# Altium footprint library FPGA_CONN.PcbLib: 2 footprints
Each footprint in its own frame and in the unit in brackets; x right, y up, seen from the top. Pads: shape width x height; smd on the part's side, far side on the other; paste and mask are expansions set on the pad; w line width, h text height; cw(c..) or ccw(c..) is an arc to the next point about the centre after c.
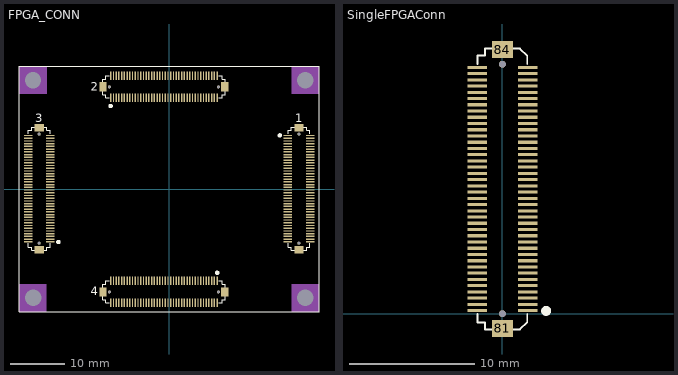
[diagram p0: the footprints below, top view; thin cyan lines are the x and y axes]

## FPGA_CONN [mm]
pads (340):
  rect 1.55x0.25 smd: A-1(21.786,9.875) A-2(25.836,9.875) A-3(21.786,9.375) A-4(25.836,9.375) A-5(21.786,8.875) A-6(25.836,8.875) A-7(21.786,8.375) A-8(25.836,8.375) A-9(21.786,7.875) A-10(25.836,7.875) A-11(21.786,7.375) A-12(25.836,7.375) A-13(21.786,6.875) A-14(25.836,6.875) A-15(21.786,6.375) A-16(25.836,6.375) A-17(21.786,5.875) A-18(25.836,5.875) A-19(21.786,5.375) A-20(25.836,5.375) A-21(21.786,4.875) A-22(25.836,4.875) A-23(21.786,4.375) A-24(25.836,4.375) A-25(21.786,3.875) A-26(25.836,3.875) A-27(21.786,3.375) A-28(25.836,3.375) A-29(21.786,2.875) A-30(25.836,2.875) A-31(21.786,2.375) A-32(25.836,2.375) A-33(21.786,1.875) A-34(25.836,1.875) A-35(21.786,1.375) A-36(25.836,1.375) A-37(21.786,0.875) A-38(25.836,0.875) A-39(21.786,0.375) A-40(25.836,0.375) A-41(21.786,-0.125) A-42(25.836,-0.125) A-43(21.786,-0.625) A-44(25.836,-0.625) A-45(21.786,-1.125) A-46(25.836,-1.125) A-47(21.786,-1.625) A-48(25.836,-1.625) A-49(21.786,-2.125) A-50(25.836,-2.125) A-51(21.786,-2.625) A-52(25.836,-2.625) A-53(21.786,-3.125) A-54(25.836,-3.125) A-55(21.786,-3.625) A-56(25.836,-3.625) A-57(21.786,-4.125) A-58(25.836,-4.125) A-59(21.786,-4.625) A-60(25.836,-4.625) A-61(21.786,-5.125) A-62(25.836,-5.125) A-63(21.786,-5.625) A-64(25.836,-5.625) A-65(21.786,-6.125) A-66(25.836,-6.125) A-67(21.786,-6.625) A-68(25.836,-6.625) A-69(21.786,-7.125) A-70(25.836,-7.125) A-71(21.786,-7.625) A-72(25.836,-7.625) A-73(21.786,-8.125) A-74(25.836,-8.125) A-75(21.786,-8.625) A-76(25.836,-8.625) A-77(21.786,-9.125) A-78(25.836,-9.125) A-79(21.786,-9.625) A-80(25.836,-9.625) C-1(-21.786,-9.624) C-2(-25.836,-9.624) C-3(-21.786,-9.124) C-4(-25.836,-9.124) C-5(-21.786,-8.624) C-6(-25.836,-8.624) C-7(-21.786,-8.124) C-8(-25.836,-8.124) C-9(-21.786,-7.624) C-10(-25.836,-7.624) C-11(-21.786,-7.124) C-12(-25.836,-7.124) C-13(-21.786,-6.624) C-14(-25.836,-6.624) C-15(-21.786,-6.124) C-16(-25.836,-6.124) C-17(-21.786,-5.624) C-18(-25.836,-5.624) C-19(-21.786,-5.124) C-20(-25.836,-5.124) C-21(-21.786,-4.624) C-22(-25.836,-4.624) C-23(-21.786,-4.124) C-24(-25.836,-4.124) C-25(-21.786,-3.624) C-26(-25.836,-3.624) C-27(-21.786,-3.124) C-28(-25.836,-3.124) C-29(-21.786,-2.624) C-30(-25.836,-2.624) C-31(-21.786,-2.124) C-32(-25.836,-2.124) C-33(-21.786,-1.624) C-34(-25.836,-1.624) C-35(-21.786,-1.124) C-36(-25.836,-1.124) C-37(-21.786,-0.624) C-38(-25.836,-0.624) C-39(-21.786,-0.124) C-40(-25.836,-0.124) C-41(-21.786,0.376) C-42(-25.836,0.376) C-43(-21.786,0.876) C-44(-25.836,0.876) C-45(-21.786,1.376) C-46(-25.836,1.376) C-47(-21.786,1.876) C-48(-25.836,1.876) C-49(-21.786,2.376) C-50(-25.836,2.376) C-51(-21.786,2.876) C-52(-25.836,2.876) C-53(-21.786,3.376) C-54(-25.836,3.376) C-55(-21.786,3.876) C-56(-25.836,3.876) C-57(-21.786,4.376) C-58(-25.836,4.376) C-59(-21.786,4.876) C-60(-25.836,4.876) C-61(-21.786,5.376) C-62(-25.836,5.376) C-63(-21.786,5.876) C-64(-25.836,5.876) C-65(-21.786,6.376) C-66(-25.836,6.376) C-67(-21.786,6.876) C-68(-25.836,6.876) C-69(-21.786,7.376) C-70(-25.836,7.376) C-71(-21.786,7.876) C-72(-25.836,7.876) C-73(-21.786,8.376) C-74(-25.836,8.376) C-75(-21.786,8.876) C-76(-25.836,8.876) C-77(-21.786,9.376) C-78(-25.836,9.376) C-79(-21.786,9.876) C-80(-25.836,9.876)
  rect 1.7x1.35 smd: A-81(23.8,11.3) A-84(23.8,-11.05) C-81(-23.8,-11.05) C-84(-23.8,11.3)
  round 0.55 hole 0.55: A-82(23.811,10.125) A-83(23.811,-9.875) B-82(-10.951,18.795) B-83(9.049,18.795) C-82(-23.811,-9.874) C-83(-23.811,10.126) D-82(9.049,-18.795) D-83(-10.951,-18.795)
  rect 0.25x1.55 smd: B-1(-10.701,16.77) B-2(-10.701,20.82) B-3(-10.201,16.77) B-4(-10.201,20.82) B-5(-9.701,16.77) B-6(-9.701,20.82) B-7(-9.201,16.77) B-8(-9.201,20.82) B-9(-8.701,16.77) B-10(-8.701,20.82) B-11(-8.201,16.77) B-12(-8.201,20.82) B-13(-7.701,16.77) B-14(-7.701,20.82) B-15(-7.201,16.77) B-16(-7.201,20.82) B-17(-6.701,16.77) B-18(-6.701,20.82) B-19(-6.201,16.77) B-20(-6.201,20.82) B-21(-5.701,16.77) B-22(-5.701,20.82) B-23(-5.201,16.77) B-24(-5.201,20.82) B-25(-4.701,16.77) B-26(-4.701,20.82) B-27(-4.201,16.77) B-28(-4.201,20.82) B-29(-3.701,16.77) B-30(-3.701,20.82) B-31(-3.201,16.77) B-32(-3.201,20.82) B-33(-2.701,16.77) B-34(-2.701,20.82) B-35(-2.201,16.77) B-36(-2.201,20.82) B-37(-1.701,16.77) B-38(-1.701,20.82) B-39(-1.201,16.77) B-40(-1.201,20.82) B-41(-0.701,16.77) B-42(-0.701,20.82) B-43(-0.201,16.77) B-44(-0.201,20.82) B-45(0.299,16.77) B-46(0.299,20.82) B-47(0.799,16.77) B-48(0.799,20.82) B-49(1.299,16.77) B-50(1.299,20.82) B-51(1.799,16.77) B-52(1.799,20.82) B-53(2.299,16.77) B-54(2.299,20.82) B-55(2.799,16.77) B-56(2.799,20.82) B-57(3.299,16.77) B-58(3.299,20.82) B-59(3.799,16.77) B-60(3.799,20.82) B-61(4.299,16.77) B-62(4.299,20.82) B-63(4.799,16.77) B-64(4.799,20.82) B-65(5.299,16.77) B-66(5.299,20.82) B-67(5.799,16.77) B-68(5.799,20.82) B-69(6.299,16.77) B-70(6.299,20.82) B-71(6.799,16.77) B-72(6.799,20.82) B-73(7.299,16.77) B-74(7.299,20.82) B-75(7.799,16.77) B-76(7.799,20.82) B-77(8.299,16.77) B-78(8.299,20.82) B-79(8.799,16.77) B-80(8.799,20.82) D-1(8.799,-16.77) D-2(8.799,-20.82) D-3(8.299,-16.77) D-4(8.299,-20.82) D-5(7.799,-16.77) D-6(7.799,-20.82) D-7(7.299,-16.77) D-8(7.299,-20.82) D-9(6.799,-16.77) D-10(6.799,-20.82) D-11(6.299,-16.77) D-12(6.299,-20.82) D-13(5.799,-16.77) D-14(5.799,-20.82) D-15(5.299,-16.77) D-16(5.299,-20.82) D-17(4.799,-16.77) D-18(4.799,-20.82) D-19(4.299,-16.77) D-20(4.299,-20.82) D-21(3.799,-16.77) D-22(3.799,-20.82) D-23(3.299,-16.77) D-24(3.299,-20.82) D-25(2.799,-16.77) D-26(2.799,-20.82) D-27(2.299,-16.77) D-28(2.299,-20.82) D-29(1.799,-16.77) D-30(1.799,-20.82) D-31(1.299,-16.77) D-32(1.299,-20.82) D-33(0.799,-16.77) D-34(0.799,-20.82) D-35(0.299,-16.77) D-36(0.299,-20.82) D-37(-0.201,-16.77) D-38(-0.201,-20.82) D-39(-0.701,-16.77) D-40(-0.701,-20.82) D-41(-1.201,-16.77) D-42(-1.201,-20.82) D-43(-1.701,-16.77) D-44(-1.701,-20.82) D-45(-2.201,-16.77) D-46(-2.201,-20.82) D-47(-2.701,-16.77) D-48(-2.701,-20.82) D-49(-3.201,-16.77) D-50(-3.201,-20.82) D-51(-3.701,-16.77) D-52(-3.701,-20.82) D-53(-4.201,-16.77) D-54(-4.201,-20.82) D-55(-4.701,-16.77) D-56(-4.701,-20.82) D-57(-5.201,-16.77) D-58(-5.201,-20.82) D-59(-5.701,-16.77) D-60(-5.701,-20.82) D-61(-6.201,-16.77) D-62(-6.201,-20.82) D-63(-6.701,-16.77) D-64(-6.701,-20.82) D-65(-7.201,-16.77) D-66(-7.201,-20.82) D-67(-7.701,-16.77) D-68(-7.701,-20.82) D-69(-8.201,-16.77) D-70(-8.201,-20.82) D-71(-8.701,-16.77) D-72(-8.701,-20.82) D-73(-9.201,-16.77) D-74(-9.201,-20.82) D-75(-9.701,-16.77) D-76(-9.701,-20.82) D-77(-10.201,-16.77) D-78(-10.201,-20.82) D-79(-10.701,-16.77) D-80(-10.701,-20.82)
  rect 1.35x1.7 smd: B-81(-12.125,18.8) B-84(10.225,18.8) D-81(10.225,-18.8) D-84(-12.125,-18.8)
  rect 0x0 hole 3: MNT-1(-24.952,20.008) MNT-2(24.985,20.008) MNT-3(24.985,-19.87) MNT-4(-24.926,-19.87)
Top Overlay:
  circle w0.4: c20.306,9.901 r0.2
  circle w0.4: c-10.727,15.29 r0.2
  circle w0.4: c-20.306,-9.649 r0.2
  circle w0.4: c8.824,-15.29 r0.2
  lines w0.127: -27.52,-22.429 -27.52,22.571 27.48,22.571 27.48,-22.429 -27.52,-22.429
  lines w0.15: -25.811,-9.907 -25.811,-10.574 -25.211,-10.574 -25.211,-11.124 -22.411,-11.124 -22.411,-10.574 -21.811,-10.574 -21.811,-9.907 ; -25.811,10.159 -25.811,10.826 -25.211,10.826 -25.211,11.376 -22.411,11.376 -22.411,10.826 -21.811,10.826 -21.811,10.159 ; -10.984,-20.795 -11.651,-20.795 -11.651,-20.195 -12.201,-20.195 -12.201,-17.395 -11.651,-17.395 -11.651,-16.795 -10.984,-16.795 ; -10.984,16.795 -11.651,16.795 -11.651,17.395 -12.201,17.395 -12.201,20.195 -11.651,20.195 -11.651,20.795 -10.984,20.795 ; 9.082,-20.795 9.749,-20.795 9.749,-20.195 10.299,-20.195 10.299,-17.395 9.749,-17.395 9.749,-16.795 9.082,-16.795 ; 9.082,16.795 9.749,16.795 9.749,17.395 10.299,17.395 10.299,20.195 9.749,20.195 9.749,20.795 9.082,20.795 ; 21.811,-9.908 21.811,-10.575 22.411,-10.575 22.411,-11.125 25.211,-11.125 25.211,-10.575 25.811,-10.575 25.811,-9.908 ; 21.811,10.158 21.811,10.825 22.411,10.825 22.411,11.375 25.211,11.375 25.211,10.825 25.811,10.825 25.811,10.158
  text "1" at 23.092,12.344 h1.52
  text "2" at -14.373,18.059 h1.52
  text "3" at -24.533,12.344 h1.52
  text "4" at -14.373,-19.406 h1.52
Mechanical 11:
  region: 27.459,-22.41 22.459,-22.41 22.459,-17.41 27.459,-17.41
  region: -22.521,-22.407 -27.521,-22.407 -27.521,-17.407 -22.521,-17.407
  region: 27.444,17.512 22.444,17.512 22.444,22.513 27.444,22.513
  region: -22.47,17.559 -27.47,17.559 -27.47,22.559 -22.47,22.559

## SingleFPGAConn [mm]
pads (84):
  rect 1.55x0.25 smd: 1(2.025,0.25) 2(-2.025,0.25) 3(2.025,0.75) 4(-2.025,0.75) 5(2.025,1.25) 6(-2.025,1.25) 7(2.025,1.75) 8(-2.025,1.75) 9(2.025,2.25) 10(-2.025,2.25) 11(2.025,2.75) 12(-2.025,2.75) 13(2.025,3.25) 14(-2.025,3.25) 15(2.025,3.75) 16(-2.025,3.75) 17(2.025,4.25) 18(-2.025,4.25) 19(2.025,4.75) 20(-2.025,4.75) 21(2.025,5.25) 22(-2.025,5.25) 23(2.025,5.75) 24(-2.025,5.75) 25(2.025,6.25) 26(-2.025,6.25) 27(2.025,6.75) 28(-2.025,6.75) 29(2.025,7.25) 30(-2.025,7.25) 31(2.025,7.75) 32(-2.025,7.75) 33(2.025,8.25) 34(-2.025,8.25) 35(2.025,8.75) 36(-2.025,8.75) 37(2.025,9.25) 38(-2.025,9.25) 39(2.025,9.75) 40(-2.025,9.75) 41(2.025,10.25) 42(-2.025,10.25) 43(2.025,10.75) 44(-2.025,10.75) 45(2.025,11.25) 46(-2.025,11.25) 47(2.025,11.75) 48(-2.025,11.75) 49(2.025,12.25) 50(-2.025,12.25) 51(2.025,12.75) 52(-2.025,12.75) 53(2.025,13.25) 54(-2.025,13.25) 55(2.025,13.75) 56(-2.025,13.75) 57(2.025,14.25) 58(-2.025,14.25) 59(2.025,14.75) 60(-2.025,14.75) 61(2.025,15.25) 62(-2.025,15.25) 63(2.025,15.75) 64(-2.025,15.75) 65(2.025,16.25) 66(-2.025,16.25) 67(2.025,16.75) 68(-2.025,16.75) 69(2.025,17.25) 70(-2.025,17.25) 71(2.025,17.75) 72(-2.025,17.75) 73(2.025,18.25) 74(-2.025,18.25) 75(2.025,18.75) 76(-2.025,18.75) 77(2.025,19.25) 78(-2.025,19.25) 79(2.025,19.75) 80(-2.025,19.75)
  rect 1.7x1.35 smd: 81(0.011,-1.176) 84(0.011,21.174)
  round 0.55 hole 0.55: 82(0,0) 83(0,20)
Top Overlay:
  circle w0.4: c3.505,0.225 r0.2
  lines w0.15: -2,-0.033 -2,-0.7 -1.4,-0.7 -1.4,-1.25 1.4,-1.25 2,-0.7 2,-0.033 ; -2,20.033 -2,20.7 -1.4,20.7 -1.4,21.25 1.4,21.25 2,20.7 2,20.033